# Altium footprint library RELAY_SolidState.PcbLib: 3 footprints
Each footprint in its own frame and in the unit in brackets; x right, y up, seen from the top. Pads: shape width x height; smd on the part's side, far side on the other; paste and mask are expansions set on the pad; w line width, h text height; cw(c..) or ccw(c..) is an arc to the next point about the centre after c.
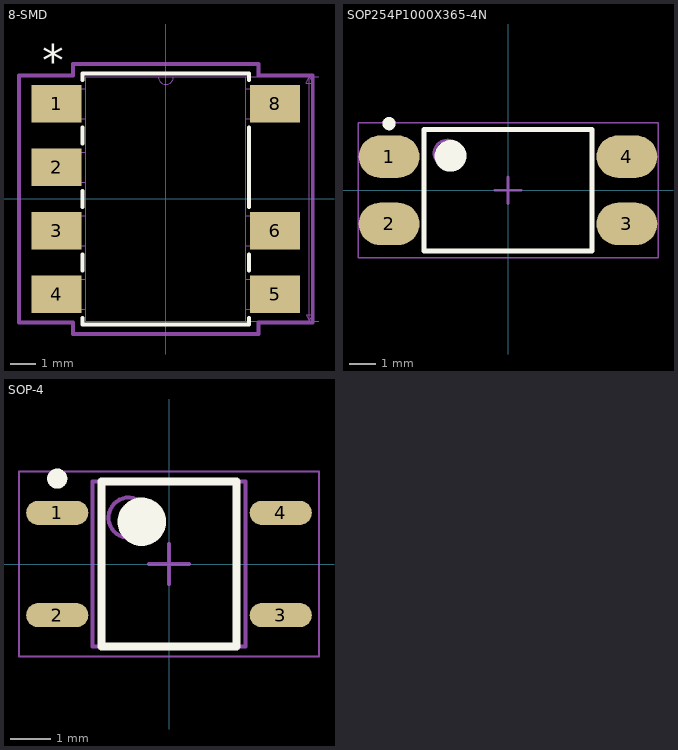
[diagram p0: the footprints below, top view; thin cyan lines are the x and y axes]

## 8-SMD [mm]
pads (7):
  rect 1.991x1.5 smd paste+0 mask+0: 1(-4.368,3.81) 2(-4.368,1.27) 3(-4.368,-1.27) 4(-4.368,-3.81) 5(4.368,-3.81) 6(4.368,-1.27) 8(4.368,3.81)
Top Overlay:
  lines w0.152: -3.327,-4.762 -3.327,-5.016 3.327,-5.016 3.327,-4.762 ; -3.327,-2.858 -3.327,-2.222 ; -3.327,-0.318 -3.327,0.318 ; -3.327,2.222 -3.327,2.858 ; -3.327,4.762 -3.327,5.016 3.327,5.016 3.327,4.762 ; 3.327,-2.858 3.327,-2.222 ; 3.327,-0.318 3.327,2.858
  text "*" at -4.939,4.927 h1.27
Mechanical 7:
  lines w0.025: 0,-4.889 6.121,-4.889 ; 0,4.889 6.121,4.889 ; 5.74,-4.889 5.74,4.889 ; 5.74,-4.889 5.613,-4.635 5.867,-4.635 5.74,-4.889 ; 5.74,4.889 5.613,4.635 5.867,4.635 5.74,4.889
Mechanical 13:
  lines w0: -0.305,4.889 ccw(c0,4.889) 0.305,4.889
  lines w0.025: -4.813,-4.407 -4.813,-3.213 -3.2,-3.213 -3.2,-4.407 -4.813,-4.407 ; -4.813,-1.867 -4.813,-0.673 -3.2,-0.673 -3.2,-1.867 -4.813,-1.867 ; -4.813,0.673 -4.813,1.867 -3.2,1.867 -3.2,0.673 -4.813,0.673 ; -4.813,3.213 -4.813,4.407 -3.2,4.407 -3.2,3.213 -4.813,3.213 ; -3.2,-4.889 3.2,-4.889 3.2,4.889 -3.2,4.889 -3.2,-4.889 ; 3.2,-4.407 3.2,-3.213 4.813,-3.213 4.813,-4.407 3.2,-4.407 ; 3.2,-1.867 3.2,-0.673 4.813,-0.673 4.813,-1.867 3.2,-1.867 ; 3.2,3.213 3.2,4.407 4.813,4.407 4.813,3.213 3.2,3.213
  text "*" at -3.137,3.543 h1.27
Mechanical 15:
  lines w0.152: -5.871,-4.94 -5.871,4.94 -3.708,4.94 -3.708,5.397 3.708,5.397 3.708,4.94 5.871,4.94 5.871,-4.94 3.708,-4.94 3.708,-5.397 -3.708,-5.397 -3.708,-4.94 -5.871,-4.94
3D body: height 0.25, standoff 0, extent 0,0 0.254,0.254
3D body "RELAY_AQH_SO8_PAN-M.step": height 3.22, standoff -0.19, extent -4.813,-4.89 4.813,4.89

## SOP254P1000X365-4N [mm] "SOP, 4-Leads, Body 4,58x6,40mm, Pitch 2,54mm, IPC Medium Density"
height 3.65
pads (4):
  oval 2.3x1.6 smd: 1(-4.5,1.27) 2(-4.5,-1.27) 3(4.5,-1.27) 4(4.5,1.27)
Top Overlay:
  circle w0.6: c-2.175,1.3 r0.3
  circle w0.25: c-4.5,2.52 r0.125
  lines w0.2: -3.175,-2.3 3.175,-2.3 3.175,2.3 -3.175,2.3 -3.175,-2.3
Mechanical 13:
  circle w0.1: c-2.3,1.4 r0.5
  lines w0.1: -3.2,-2.3 3.2,-2.3 3.2,2.3 -3.2,2.3 -3.2,-2.3
Mechanical 15:
  lines w0.05: -5.675,-2.55 5.675,-2.55 5.675,2.55 -5.675,2.55 -5.675,-2.55
  lines w0.1: -0.5,0 0.5,0 ; 0,-0.5 0,0.5
3D body "SOP254P1000X365-4N.step": height 3.65, standoff 0, extent -5,-2.3 5,2.3

## SOP-4 [mm]
height 2.03
pads (4):
  oval 1.54x0.6 smd: 1(-2.775,1.27) 2(-2.775,-1.27) 3(2.775,-1.27) 4(2.775,1.27)
Top Overlay:
  circle w0.6: c-0.675,1.05 r0.3
  circle w0.25: c-2.775,2.12 r0.125
  lines w0.2: -1.675,-2.05 1.675,-2.05 1.675,2.05 -1.675,2.05 -1.675,-2.05
Mechanical 13:
  circle w0.1: c-1,1.15 r0.5
  lines w0.1: -1.9,-2.05 1.9,-2.05 1.9,2.05 -1.9,2.05 -1.9,-2.05
Mechanical 15:
  lines w0.05: -3.725,-2.3 3.725,-2.3 3.725,2.3 -3.725,2.3 -3.725,-2.3
  lines w0.1: -0.5,0 0.5,0 ; 0,-0.5 0,0.5
3D body "SOP-4.step": height 2.03, standoff 0, extent -3.048,-2.05 3.048,2.05